# Altium footprint library QUTMS_PCBLibrary.PcbLib: 35 footprints (part 3 of 3)
Each footprint in its own frame and in the unit in brackets; x right, y up, seen from the top. Pads: shape width x height; smd on the part's side, far side on the other; paste and mask are expansions set on the pad; w line width, h text height; cw(c..) or ccw(c..) is an arc to the next point about the centre after c.
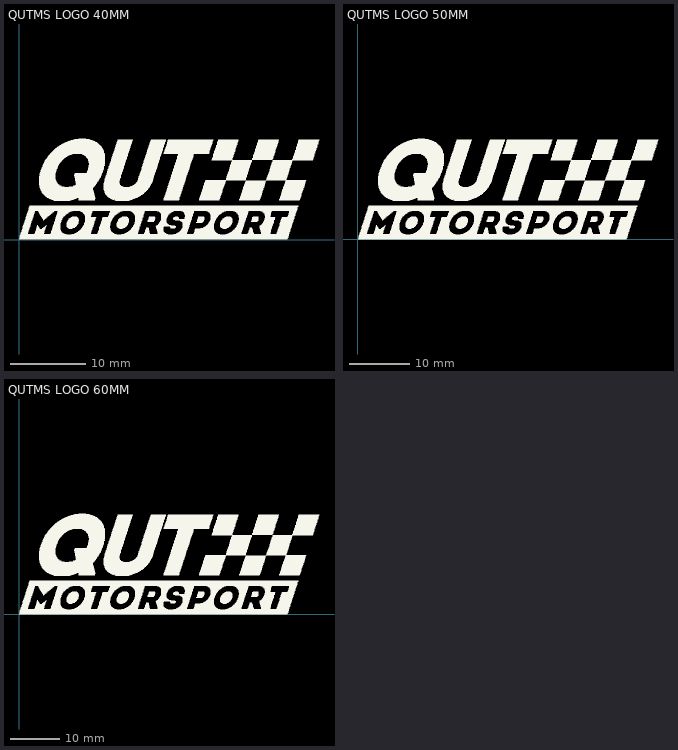
[diagram p2: the footprints below, top view; thin cyan lines are the x and y axes]

## QUTMS LOGO 40MM [mil]
Top Overlay:
  drawing of 14 lines, arcs and shapes, not listed

## QUTMS LOGO 50MM [mil]
Top Overlay:
  drawing of 14 lines, arcs and shapes, not listed

## QUTMS LOGO 60MM [mil]
Top Overlay:
  drawing of 14 lines, arcs and shapes, not listed